# Altium integrated library Linear Technology PMIC-Switching Reg LTC1174-LTC3901.IntLib: 2647 symbols (part 214 of 310)
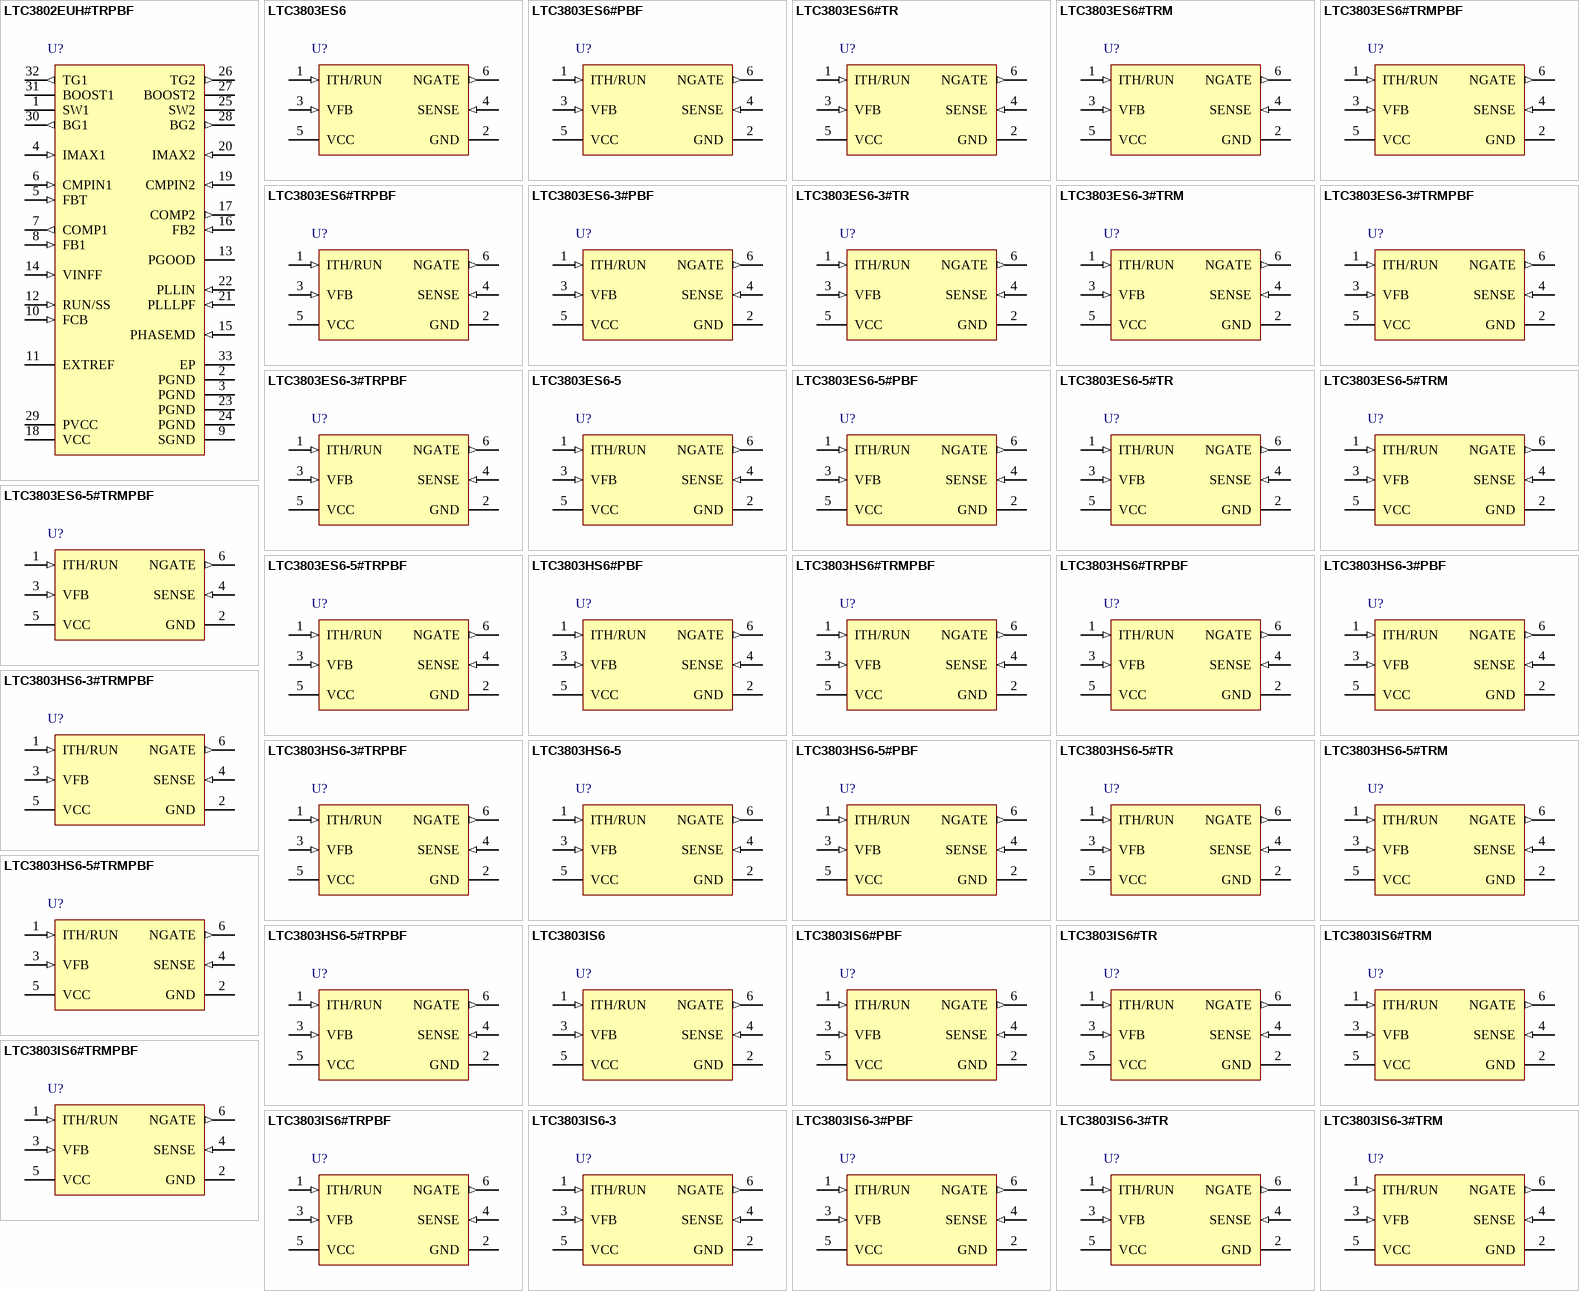
[diagram p241: symbols LTC3802EUH#TRPBF to LTC3803IS6-3#TRM]

## LTC3803ES6#TRMPBF
designator U?
Constant Frequency Current Mode Flyback DC/DC Controller, 6-pin SOT23 (S6-6), -40 to 125 degC, Pb-Free, Mini Tape and Reel; Manufacturer: Linear Technology; PartNumber: LTC3803ES6#TRMPBF; Number of Outputs: 1; PackageReference: S6-6; PackageDescription: 6-Pin Plastic TSOT-23, Body 2.9 x 1.63 mm, Pitch 0.95 mm; Supplier 1: Digi-Key; Supplier Part Number 1: LTC3803ES6#TRMPBFTR-ND; RoHS: TRUE; Code_JEDEC: MO-193
footprint LT-S6-6-TSOT-23_N (SOT23, 6-Leads, Body 2.9x1.75mm, Pitch 0.95mm, IPC Medium Density)
footprint LT-S6-6-TSOT-23_L (SOT23, 6-Leads, Body 2.9x1.75mm, Pitch 0.95mm, IPC High Density)
footprint LT-S6-6-TSOT-23_M (SOT23, 6-Leads, Body 2.9x1.75mm, Pitch 0.95mm, IPC Low Density)
pins: 1 ITH/RUN (in), 2 GND (power) "Ground Pin.", 3 VFB (in) "Receives the feedback voltage from an external resistive divider across the output.", 4 SENSE (in) "This pin performs two functions. It monitors switch current by reading the voltage across an external current sense resistor to ground. It also injects a current ramp that develops slope compensation voltage across an (See Datasheet)", 5 VCC (power) "Supply Pin. Must be closely decoupled to GND (Pin 2).", 6 NGATE (out) "Gate Drive for the External N-channel MOSFET. This pin swings from 0V to VCC."

## LTC3803ES6#TRPBF
designator U?
Constant Frequency Current Mode Flyback DC/DC Controller, 6-pin SOT23 (S6-6), -40 to 125 degC, Pb-Free, Tape and Reel; Manufacturer: Linear Technology; PartNumber: LTC3803ES6#TRPBF; Number of Outputs: 1; PackageReference: S6-6; PackageDescription: 6-Pin Plastic TSOT-23, Body 2.9 x 1.63 mm, Pitch 0.95 mm; Supplier 1: Digi-Key; Supplier Part Number 1: LTC3803ES6#TRPBF-ND; RoHS: TRUE; Code_JEDEC: MO-193
footprint LT-S6-6-TSOT-23_N (SOT23, 6-Leads, Body 2.9x1.75mm, Pitch 0.95mm, IPC Medium Density)
footprint LT-S6-6-TSOT-23_L (SOT23, 6-Leads, Body 2.9x1.75mm, Pitch 0.95mm, IPC High Density)
footprint LT-S6-6-TSOT-23_M (SOT23, 6-Leads, Body 2.9x1.75mm, Pitch 0.95mm, IPC Low Density)
pins: 1 ITH/RUN (in), 2 GND (power) "Ground Pin.", 3 VFB (in) "Receives the feedback voltage from an external resistive divider across the output.", 4 SENSE (in) "This pin performs two functions. It monitors switch current by reading the voltage across an external current sense resistor to ground. It also injects a current ramp that develops slope compensation voltage across an (See Datasheet)", 5 VCC (power) "Supply Pin. Must be closely decoupled to GND (Pin 2).", 6 NGATE (out) "Gate Drive for the External N-channel MOSFET. This pin swings from 0V to VCC."

## LTC3803ES6-3#PBF
designator U?
Constant Frequency Current Mode Flyback DC/DC Controller, 6-pin SOT23 (S6-6), -40 to 125 degC, Pb-Free; Manufacturer: Linear Technology; PartNumber: LTC3803ES6-3#PBF; Number of Outputs: 1; PackageReference: S6-6; PackageDescription: 6-Pin Plastic TSOT-23, Body 2.9 x 1.63 mm, Pitch 0.95 mm; Supplier 1: Farnell; Supplier Part Number 1: 2295146; RoHS: TRUE; Code_JEDEC: MO-193
footprint LT-S6-6-TSOT-23_N (SOT23, 6-Leads, Body 2.9x1.75mm, Pitch 0.95mm, IPC Medium Density)
footprint LT-S6-6-TSOT-23_L (SOT23, 6-Leads, Body 2.9x1.75mm, Pitch 0.95mm, IPC High Density)
footprint LT-S6-6-TSOT-23_M (SOT23, 6-Leads, Body 2.9x1.75mm, Pitch 0.95mm, IPC Low Density)
pins: 1 ITH/RUN (in), 2 GND (power) "Ground Pin.", 3 VFB (in) "Receives the feedback voltage from an external resistive divider across the output.", 4 SENSE (in) "This pin performs two functions. It monitors switch current by reading the voltage across an external current sense resistor to ground. It also injects a current ramp that develops slope compensation voltage across an (See Datasheet)", 5 VCC (power) "Supply Pin. Must be closely decoupled to GND (Pin 2).", 6 NGATE (out) "Gate Drive for the External N-channel MOSFET. This pin swings from 0V to VCC."

## LTC3803ES6-3#TR
designator U?
Constant Frequency Current Mode Flyback DC/DC Controller, 6-pin SOT23 (S6-6), -40 to 125 degC, Tape and Reel; Manufacturer: Linear Technology; PartNumber: LTC3803ES6-3#TR; Number of Outputs: 1; PackageReference: S6-6; PackageDescription: 6-Pin Plastic TSOT-23, Body 2.9 x 1.63 mm, Pitch 0.95 mm; RoHS: FALSE; Code_JEDEC: MO-193
footprint LT-S6-6-TSOT-23_N (SOT23, 6-Leads, Body 2.9x1.75mm, Pitch 0.95mm, IPC Medium Density)
footprint LT-S6-6-TSOT-23_L (SOT23, 6-Leads, Body 2.9x1.75mm, Pitch 0.95mm, IPC High Density)
footprint LT-S6-6-TSOT-23_M (SOT23, 6-Leads, Body 2.9x1.75mm, Pitch 0.95mm, IPC Low Density)
pins: 1 ITH/RUN (in), 2 GND (power) "Ground Pin.", 3 VFB (in) "Receives the feedback voltage from an external resistive divider across the output.", 4 SENSE (in) "This pin performs two functions. It monitors switch current by reading the voltage across an external current sense resistor to ground. It also injects a current ramp that develops slope compensation voltage across an (See Datasheet)", 5 VCC (power) "Supply Pin. Must be closely decoupled to GND (Pin 2).", 6 NGATE (out) "Gate Drive for the External N-channel MOSFET. This pin swings from 0V to VCC."

## LTC3803ES6-3#TRM
designator U?
Constant Frequency Current Mode Flyback DC/DC Controller, 6-pin SOT23 (S6-6), -40 to 125 degC, Mini Tape and Reel; Manufacturer: Linear Technology; PartNumber: LTC3803ES6-3#TRM; Number of Outputs: 1; PackageReference: S6-6; PackageDescription: 6-Pin Plastic TSOT-23, Body 2.9 x 1.63 mm, Pitch 0.95 mm; RoHS: FALSE; Code_JEDEC: MO-193
footprint LT-S6-6-TSOT-23_N (SOT23, 6-Leads, Body 2.9x1.75mm, Pitch 0.95mm, IPC Medium Density)
footprint LT-S6-6-TSOT-23_L (SOT23, 6-Leads, Body 2.9x1.75mm, Pitch 0.95mm, IPC High Density)
footprint LT-S6-6-TSOT-23_M (SOT23, 6-Leads, Body 2.9x1.75mm, Pitch 0.95mm, IPC Low Density)
pins: 1 ITH/RUN (in), 2 GND (power) "Ground Pin.", 3 VFB (in) "Receives the feedback voltage from an external resistive divider across the output.", 4 SENSE (in) "This pin performs two functions. It monitors switch current by reading the voltage across an external current sense resistor to ground. It also injects a current ramp that develops slope compensation voltage across an (See Datasheet)", 5 VCC (power) "Supply Pin. Must be closely decoupled to GND (Pin 2).", 6 NGATE (out) "Gate Drive for the External N-channel MOSFET. This pin swings from 0V to VCC."

## LTC3803ES6-3#TRMPBF
designator U?
Constant Frequency Current Mode Flyback DC/DC Controller, 6-pin SOT23 (S6-6), -40 to 125 degC, Pb-Free, Mini Tape and Reel; Manufacturer: Linear Technology; PartNumber: LTC3803ES6-3#TRMPBF; Number of Outputs: 1; PackageReference: S6-6; PackageDescription: 6-Pin Plastic TSOT-23, Body 2.9 x 1.63 mm, Pitch 0.95 mm; Supplier 1: Digi-Key; Supplier Part Number 1: LTC3803ES6-3#TRMPBFTR-ND; RoHS: TRUE; Code_JEDEC: MO-193
footprint LT-S6-6-TSOT-23_N (SOT23, 6-Leads, Body 2.9x1.75mm, Pitch 0.95mm, IPC Medium Density)
footprint LT-S6-6-TSOT-23_L (SOT23, 6-Leads, Body 2.9x1.75mm, Pitch 0.95mm, IPC High Density)
footprint LT-S6-6-TSOT-23_M (SOT23, 6-Leads, Body 2.9x1.75mm, Pitch 0.95mm, IPC Low Density)
pins: 1 ITH/RUN (in), 2 GND (power) "Ground Pin.", 3 VFB (in) "Receives the feedback voltage from an external resistive divider across the output.", 4 SENSE (in) "This pin performs two functions. It monitors switch current by reading the voltage across an external current sense resistor to ground. It also injects a current ramp that develops slope compensation voltage across an (See Datasheet)", 5 VCC (power) "Supply Pin. Must be closely decoupled to GND (Pin 2).", 6 NGATE (out) "Gate Drive for the External N-channel MOSFET. This pin swings from 0V to VCC."

## LTC3803ES6-3#TRPBF
designator U?
Constant Frequency Current Mode Flyback DC/DC Controller, 6-pin SOT23 (S6-6), -40 to 125 degC, Pb-Free, Tape and Reel; Manufacturer: Linear Technology; PartNumber: LTC3803ES6-3#TRPBF; Number of Outputs: 1; PackageReference: S6-6; PackageDescription: 6-Pin Plastic TSOT-23, Body 2.9 x 1.63 mm, Pitch 0.95 mm; Supplier 1: Digi-Key; Supplier Part Number 1: LTC3803ES6-3#TRPBF-ND; RoHS: TRUE; Code_JEDEC: MO-193
footprint LT-S6-6-TSOT-23_N (SOT23, 6-Leads, Body 2.9x1.75mm, Pitch 0.95mm, IPC Medium Density)
footprint LT-S6-6-TSOT-23_L (SOT23, 6-Leads, Body 2.9x1.75mm, Pitch 0.95mm, IPC High Density)
footprint LT-S6-6-TSOT-23_M (SOT23, 6-Leads, Body 2.9x1.75mm, Pitch 0.95mm, IPC Low Density)
pins: 1 ITH/RUN (in), 2 GND (power) "Ground Pin.", 3 VFB (in) "Receives the feedback voltage from an external resistive divider across the output.", 4 SENSE (in) "This pin performs two functions. It monitors switch current by reading the voltage across an external current sense resistor to ground. It also injects a current ramp that develops slope compensation voltage across an (See Datasheet)", 5 VCC (power) "Supply Pin. Must be closely decoupled to GND (Pin 2).", 6 NGATE (out) "Gate Drive for the External N-channel MOSFET. This pin swings from 0V to VCC."

## LTC3803ES6-5
designator U?
Constant Frequency Current Mode Flyback DC/DC Controller, 6-pin SOT23 (S6-6), -40 to 125 degC; Manufacturer: Linear Technology; PartNumber: LTC3803ES6-5; Number of Outputs: 1; PackageReference: S6-6; PackageDescription: 6-Pin Plastic TSOT-23, Body 2.9 x 1.63 mm, Pitch 0.95 mm; RoHS: FALSE; Code_JEDEC: MO-193
footprint LT-S6-6-TSOT-23_N (SOT23, 6-Leads, Body 2.9x1.75mm, Pitch 0.95mm, IPC Medium Density)
footprint LT-S6-6-TSOT-23_L (SOT23, 6-Leads, Body 2.9x1.75mm, Pitch 0.95mm, IPC High Density)
footprint LT-S6-6-TSOT-23_M (SOT23, 6-Leads, Body 2.9x1.75mm, Pitch 0.95mm, IPC Low Density)
pins: 1 ITH/RUN (in), 2 GND (power) "Ground Pin.", 3 VFB (in) "Receives the feedback voltage from an external resistive divider across the output.", 4 SENSE (in) "This pin performs two functions. It monitors switch current by reading the voltage across an external current sense resistor to ground. It also injects a current ramp that develops slope compensation voltage across an (See Datasheet)", 5 VCC (power) "Supply Pin. Must be closely decoupled to GND (Pin 2).", 6 NGATE (out) "Gate Drive for the External N-channel MOSFET. This pin swings from 0V to VCC."

## LTC3803ES6-5#PBF
designator U?
Constant Frequency Current Mode Flyback DC/DC Controller, 6-pin SOT23 (S6-6), -40 to 125 degC, Pb-Free; Manufacturer: Linear Technology; PartNumber: LTC3803ES6-5#PBF; Number of Outputs: 1; PackageReference: S6-6; PackageDescription: 6-Pin Plastic TSOT-23, Body 2.9 x 1.63 mm, Pitch 0.95 mm; Supplier 1: Newark; Supplier Part Number 1: 78T3246; RoHS: TRUE; Code_JEDEC: MO-193
footprint LT-S6-6-TSOT-23_N (SOT23, 6-Leads, Body 2.9x1.75mm, Pitch 0.95mm, IPC Medium Density)
footprint LT-S6-6-TSOT-23_L (SOT23, 6-Leads, Body 2.9x1.75mm, Pitch 0.95mm, IPC High Density)
footprint LT-S6-6-TSOT-23_M (SOT23, 6-Leads, Body 2.9x1.75mm, Pitch 0.95mm, IPC Low Density)
pins: 1 ITH/RUN (in), 2 GND (power) "Ground Pin.", 3 VFB (in) "Receives the feedback voltage from an external resistive divider across the output.", 4 SENSE (in) "This pin performs two functions. It monitors switch current by reading the voltage across an external current sense resistor to ground. It also injects a current ramp that develops slope compensation voltage across an (See Datasheet)", 5 VCC (power) "Supply Pin. Must be closely decoupled to GND (Pin 2).", 6 NGATE (out) "Gate Drive for the External N-channel MOSFET. This pin swings from 0V to VCC."

## LTC3803ES6-5#TR
designator U?
Constant Frequency Current Mode Flyback DC/DC Controller, 6-pin SOT23 (S6-6), -40 to 125 degC, Tape and Reel; Manufacturer: Linear Technology; PartNumber: LTC3803ES6-5#TR; Number of Outputs: 1; PackageReference: S6-6; PackageDescription: 6-Pin Plastic TSOT-23, Body 2.9 x 1.63 mm, Pitch 0.95 mm; RoHS: FALSE; Code_JEDEC: MO-193
footprint LT-S6-6-TSOT-23_N (SOT23, 6-Leads, Body 2.9x1.75mm, Pitch 0.95mm, IPC Medium Density)
footprint LT-S6-6-TSOT-23_L (SOT23, 6-Leads, Body 2.9x1.75mm, Pitch 0.95mm, IPC High Density)
footprint LT-S6-6-TSOT-23_M (SOT23, 6-Leads, Body 2.9x1.75mm, Pitch 0.95mm, IPC Low Density)
pins: 1 ITH/RUN (in), 2 GND (power) "Ground Pin.", 3 VFB (in) "Receives the feedback voltage from an external resistive divider across the output.", 4 SENSE (in) "This pin performs two functions. It monitors switch current by reading the voltage across an external current sense resistor to ground. It also injects a current ramp that develops slope compensation voltage across an (See Datasheet)", 5 VCC (power) "Supply Pin. Must be closely decoupled to GND (Pin 2).", 6 NGATE (out) "Gate Drive for the External N-channel MOSFET. This pin swings from 0V to VCC."

## LTC3803ES6-5#TRM
designator U?
Constant Frequency Current Mode Flyback DC/DC Controller, 6-pin SOT23 (S6-6), -40 to 125 degC, Mini Tape and Reel; Manufacturer: Linear Technology; PartNumber: LTC3803ES6-5#TRM; Number of Outputs: 1; PackageReference: S6-6; PackageDescription: 6-Pin Plastic TSOT-23, Body 2.9 x 1.63 mm, Pitch 0.95 mm; Supplier 1: Digi-Key; Supplier Part Number 1: LTC3803ES6-5#TRMTR-ND; RoHS: FALSE; Code_JEDEC: MO-193
footprint LT-S6-6-TSOT-23_N (SOT23, 6-Leads, Body 2.9x1.75mm, Pitch 0.95mm, IPC Medium Density)
footprint LT-S6-6-TSOT-23_L (SOT23, 6-Leads, Body 2.9x1.75mm, Pitch 0.95mm, IPC High Density)
footprint LT-S6-6-TSOT-23_M (SOT23, 6-Leads, Body 2.9x1.75mm, Pitch 0.95mm, IPC Low Density)
pins: 1 ITH/RUN (in), 2 GND (power) "Ground Pin.", 3 VFB (in) "Receives the feedback voltage from an external resistive divider across the output.", 4 SENSE (in) "This pin performs two functions. It monitors switch current by reading the voltage across an external current sense resistor to ground. It also injects a current ramp that develops slope compensation voltage across an (See Datasheet)", 5 VCC (power) "Supply Pin. Must be closely decoupled to GND (Pin 2).", 6 NGATE (out) "Gate Drive for the External N-channel MOSFET. This pin swings from 0V to VCC."

## LTC3803ES6-5#TRMPBF
designator U?
Constant Frequency Current Mode Flyback DC/DC Controller, 6-pin SOT23 (S6-6), -40 to 125 degC, Pb-Free, Mini Tape and Reel; Manufacturer: Linear Technology; PartNumber: LTC3803ES6-5#TRMPBF; Number of Outputs: 1; PackageReference: S6-6; PackageDescription: 6-Pin Plastic TSOT-23, Body 2.9 x 1.63 mm, Pitch 0.95 mm; Supplier 1: Digi-Key; Supplier Part Number 1: LTC3803ES6-5#TRMPBF-ND; RoHS: TRUE; Code_JEDEC: MO-193
footprint LT-S6-6-TSOT-23_N (SOT23, 6-Leads, Body 2.9x1.75mm, Pitch 0.95mm, IPC Medium Density)
footprint LT-S6-6-TSOT-23_L (SOT23, 6-Leads, Body 2.9x1.75mm, Pitch 0.95mm, IPC High Density)
footprint LT-S6-6-TSOT-23_M (SOT23, 6-Leads, Body 2.9x1.75mm, Pitch 0.95mm, IPC Low Density)
pins: 1 ITH/RUN (in), 2 GND (power) "Ground Pin.", 3 VFB (in) "Receives the feedback voltage from an external resistive divider across the output.", 4 SENSE (in) "This pin performs two functions. It monitors switch current by reading the voltage across an external current sense resistor to ground. It also injects a current ramp that develops slope compensation voltage across an (See Datasheet)", 5 VCC (power) "Supply Pin. Must be closely decoupled to GND (Pin 2).", 6 NGATE (out) "Gate Drive for the External N-channel MOSFET. This pin swings from 0V to VCC."

## LTC3803ES6-5#TRPBF
designator U?
Constant Frequency Current Mode Flyback DC/DC Controller, 6-pin SOT23 (S6-6), -40 to 125 degC, Pb-Free, Tape and Reel; Manufacturer: Linear Technology; PartNumber: LTC3803ES6-5#TRPBF; Number of Outputs: 1; PackageReference: S6-6; PackageDescription: 6-Pin Plastic TSOT-23, Body 2.9 x 1.63 mm, Pitch 0.95 mm; Supplier 1: Digi-Key; Supplier Part Number 1: LTC3803ES6-5#TRPBF-ND; RoHS: TRUE; Code_JEDEC: MO-193
footprint LT-S6-6-TSOT-23_N (SOT23, 6-Leads, Body 2.9x1.75mm, Pitch 0.95mm, IPC Medium Density)
footprint LT-S6-6-TSOT-23_L (SOT23, 6-Leads, Body 2.9x1.75mm, Pitch 0.95mm, IPC High Density)
footprint LT-S6-6-TSOT-23_M (SOT23, 6-Leads, Body 2.9x1.75mm, Pitch 0.95mm, IPC Low Density)
pins: 1 ITH/RUN (in), 2 GND (power) "Ground Pin.", 3 VFB (in) "Receives the feedback voltage from an external resistive divider across the output.", 4 SENSE (in) "This pin performs two functions. It monitors switch current by reading the voltage across an external current sense resistor to ground. It also injects a current ramp that develops slope compensation voltage across an (See Datasheet)", 5 VCC (power) "Supply Pin. Must be closely decoupled to GND (Pin 2).", 6 NGATE (out) "Gate Drive for the External N-channel MOSFET. This pin swings from 0V to VCC."

## LTC3803HS6#PBF
designator U?
Constant Frequency Current Mode Flyback DC/DC Controller, 6-pin SOT23 (S6-6), -40 to 150 degC, Pb-Free; Manufacturer: Linear Technology; PartNumber: LTC3803HS6#PBF; Number of Outputs: 1; PackageReference: S6-6; PackageDescription: 6-Pin Plastic TSOT-23, Body 2.9 x 1.63 mm, Pitch 0.95 mm; Supplier 1: Newark; Supplier Part Number 1: 51P3118; RoHS: TRUE; Code_JEDEC: MO-193
footprint LT-S6-6-TSOT-23_N (SOT23, 6-Leads, Body 2.9x1.75mm, Pitch 0.95mm, IPC Medium Density)
footprint LT-S6-6-TSOT-23_L (SOT23, 6-Leads, Body 2.9x1.75mm, Pitch 0.95mm, IPC High Density)
footprint LT-S6-6-TSOT-23_M (SOT23, 6-Leads, Body 2.9x1.75mm, Pitch 0.95mm, IPC Low Density)
pins: 1 ITH/RUN (in), 2 GND (power) "Ground Pin.", 3 VFB (in) "Receives the feedback voltage from an external resistive divider across the output.", 4 SENSE (in) "This pin performs two functions. It monitors switch current by reading the voltage across an external current sense resistor to ground. It also injects a current ramp that develops slope compensation voltage across an (See Datasheet)", 5 VCC (power) "Supply Pin. Must be closely decoupled to GND (Pin 2).", 6 NGATE (out) "Gate Drive for the External N-channel MOSFET. This pin swings from 0V to VCC."

## LTC3803HS6#TRMPBF
designator U?
Constant Frequency Current Mode Flyback DC/DC Controller, 6-pin SOT23 (S6-6), -40 to 150 degC, Pb-Free, Mini Tape and Reel; Manufacturer: Linear Technology; PartNumber: LTC3803HS6#TRMPBF; Number of Outputs: 1; PackageReference: S6-6; PackageDescription: 6-Pin Plastic TSOT-23, Body 2.9 x 1.63 mm, Pitch 0.95 mm; Supplier 1: Digi-Key; Supplier Part Number 1: LTC3803HS6#TRMPBFTR-ND; RoHS: TRUE; Code_JEDEC: MO-193
footprint LT-S6-6-TSOT-23_N (SOT23, 6-Leads, Body 2.9x1.75mm, Pitch 0.95mm, IPC Medium Density)
footprint LT-S6-6-TSOT-23_L (SOT23, 6-Leads, Body 2.9x1.75mm, Pitch 0.95mm, IPC High Density)
footprint LT-S6-6-TSOT-23_M (SOT23, 6-Leads, Body 2.9x1.75mm, Pitch 0.95mm, IPC Low Density)
pins: 1 ITH/RUN (in), 2 GND (power) "Ground Pin.", 3 VFB (in) "Receives the feedback voltage from an external resistive divider across the output.", 4 SENSE (in) "This pin performs two functions. It monitors switch current by reading the voltage across an external current sense resistor to ground. It also injects a current ramp that develops slope compensation voltage across an (See Datasheet)", 5 VCC (power) "Supply Pin. Must be closely decoupled to GND (Pin 2).", 6 NGATE (out) "Gate Drive for the External N-channel MOSFET. This pin swings from 0V to VCC."

## LTC3803HS6#TRPBF
designator U?
Constant Frequency Current Mode Flyback DC/DC Controller, 6-pin SOT23 (S6-6), -40 to 150 degC, Pb-Free, Tape and Reel; Manufacturer: Linear Technology; PartNumber: LTC3803HS6#TRPBF; Number of Outputs: 1; PackageReference: S6-6; PackageDescription: 6-Pin Plastic TSOT-23, Body 2.9 x 1.63 mm, Pitch 0.95 mm; Supplier 1: Digi-Key; Supplier Part Number 1: LTC3803HS6#TRPBF-ND; RoHS: TRUE; Code_JEDEC: MO-193
footprint LT-S6-6-TSOT-23_N (SOT23, 6-Leads, Body 2.9x1.75mm, Pitch 0.95mm, IPC Medium Density)
footprint LT-S6-6-TSOT-23_L (SOT23, 6-Leads, Body 2.9x1.75mm, Pitch 0.95mm, IPC High Density)
footprint LT-S6-6-TSOT-23_M (SOT23, 6-Leads, Body 2.9x1.75mm, Pitch 0.95mm, IPC Low Density)
pins: 1 ITH/RUN (in), 2 GND (power) "Ground Pin.", 3 VFB (in) "Receives the feedback voltage from an external resistive divider across the output.", 4 SENSE (in) "This pin performs two functions. It monitors switch current by reading the voltage across an external current sense resistor to ground. It also injects a current ramp that develops slope compensation voltage across an (See Datasheet)", 5 VCC (power) "Supply Pin. Must be closely decoupled to GND (Pin 2).", 6 NGATE (out) "Gate Drive for the External N-channel MOSFET. This pin swings from 0V to VCC."

## LTC3803HS6-3#PBF
designator U?
Constant Frequency Current Mode Flyback DC/DC Controller, 6-pin SOT23 (S6-6), -40 to 150 degC, Pb-Free; Manufacturer: Linear Technology; PartNumber: LTC3803HS6-3#PBF; Number of Outputs: 1; PackageReference: S6-6; PackageDescription: 6-Pin Plastic TSOT-23, Body 2.9 x 1.63 mm, Pitch 0.95 mm; RoHS: TRUE; Code_JEDEC: MO-193
footprint LT-S6-6-TSOT-23_N (SOT23, 6-Leads, Body 2.9x1.75mm, Pitch 0.95mm, IPC Medium Density)
footprint LT-S6-6-TSOT-23_L (SOT23, 6-Leads, Body 2.9x1.75mm, Pitch 0.95mm, IPC High Density)
footprint LT-S6-6-TSOT-23_M (SOT23, 6-Leads, Body 2.9x1.75mm, Pitch 0.95mm, IPC Low Density)
pins: 1 ITH/RUN (in), 2 GND (power) "Ground Pin.", 3 VFB (in) "Receives the feedback voltage from an external resistive divider across the output.", 4 SENSE (in) "This pin performs two functions. It monitors switch current by reading the voltage across an external current sense resistor to ground. It also injects a current ramp that develops slope compensation voltage across an (See Datasheet)", 5 VCC (power) "Supply Pin. Must be closely decoupled to GND (Pin 2).", 6 NGATE (out) "Gate Drive for the External N-channel MOSFET. This pin swings from 0V to VCC."

## LTC3803HS6-3#TRMPBF
designator U?
Constant Frequency Current Mode Flyback DC/DC Controller, 6-pin SOT23 (S6-6), -40 to 150 degC, Pb-Free, Mini Tape and Reel; Manufacturer: Linear Technology; PartNumber: LTC3803HS6-3#TRMPBF; Number of Outputs: 1; PackageReference: S6-6; PackageDescription: 6-Pin Plastic TSOT-23, Body 2.9 x 1.63 mm, Pitch 0.95 mm; Supplier 1: Digi-Key; Supplier Part Number 1: LTC3803HS6-3#TRMPBF-ND; RoHS: TRUE; Code_JEDEC: MO-193
footprint LT-S6-6-TSOT-23_N (SOT23, 6-Leads, Body 2.9x1.75mm, Pitch 0.95mm, IPC Medium Density)
footprint LT-S6-6-TSOT-23_L (SOT23, 6-Leads, Body 2.9x1.75mm, Pitch 0.95mm, IPC High Density)
footprint LT-S6-6-TSOT-23_M (SOT23, 6-Leads, Body 2.9x1.75mm, Pitch 0.95mm, IPC Low Density)
pins: 1 ITH/RUN (in), 2 GND (power) "Ground Pin.", 3 VFB (in) "Receives the feedback voltage from an external resistive divider across the output.", 4 SENSE (in) "This pin performs two functions. It monitors switch current by reading the voltage across an external current sense resistor to ground. It also injects a current ramp that develops slope compensation voltage across an (See Datasheet)", 5 VCC (power) "Supply Pin. Must be closely decoupled to GND (Pin 2).", 6 NGATE (out) "Gate Drive for the External N-channel MOSFET. This pin swings from 0V to VCC."

## LTC3803HS6-3#TRPBF
designator U?
Constant Frequency Current Mode Flyback DC/DC Controller, 6-pin SOT23 (S6-6), -40 to 150 degC, Pb-Free, Tape and Reel; Manufacturer: Linear Technology; PartNumber: LTC3803HS6-3#TRPBF; Number of Outputs: 1; PackageReference: S6-6; PackageDescription: 6-Pin Plastic TSOT-23, Body 2.9 x 1.63 mm, Pitch 0.95 mm; Supplier 1: Digi-Key; Supplier Part Number 1: LTC3803HS6-3#TRPBF-ND; RoHS: TRUE; Code_JEDEC: MO-193
footprint LT-S6-6-TSOT-23_N (SOT23, 6-Leads, Body 2.9x1.75mm, Pitch 0.95mm, IPC Medium Density)
footprint LT-S6-6-TSOT-23_L (SOT23, 6-Leads, Body 2.9x1.75mm, Pitch 0.95mm, IPC High Density)
footprint LT-S6-6-TSOT-23_M (SOT23, 6-Leads, Body 2.9x1.75mm, Pitch 0.95mm, IPC Low Density)
pins: 1 ITH/RUN (in), 2 GND (power) "Ground Pin.", 3 VFB (in) "Receives the feedback voltage from an external resistive divider across the output.", 4 SENSE (in) "This pin performs two functions. It monitors switch current by reading the voltage across an external current sense resistor to ground. It also injects a current ramp that develops slope compensation voltage across an (See Datasheet)", 5 VCC (power) "Supply Pin. Must be closely decoupled to GND (Pin 2).", 6 NGATE (out) "Gate Drive for the External N-channel MOSFET. This pin swings from 0V to VCC."

## LTC3803HS6-5
designator U?
Constant Frequency Current Mode Flyback DC/DC Controller, 6-pin SOT23 (S6-6), -40 to 150 degC; Manufacturer: Linear Technology; PartNumber: LTC3803HS6-5; Number of Outputs: 1; PackageReference: S6-6; PackageDescription: 6-Pin Plastic TSOT-23, Body 2.9 x 1.63 mm, Pitch 0.95 mm; RoHS: FALSE; Code_JEDEC: MO-193
footprint LT-S6-6-TSOT-23_N (SOT23, 6-Leads, Body 2.9x1.75mm, Pitch 0.95mm, IPC Medium Density)
footprint LT-S6-6-TSOT-23_L (SOT23, 6-Leads, Body 2.9x1.75mm, Pitch 0.95mm, IPC High Density)
footprint LT-S6-6-TSOT-23_M (SOT23, 6-Leads, Body 2.9x1.75mm, Pitch 0.95mm, IPC Low Density)
pins: 1 ITH/RUN (in), 2 GND (power) "Ground Pin.", 3 VFB (in) "Receives the feedback voltage from an external resistive divider across the output.", 4 SENSE (in) "This pin performs two functions. It monitors switch current by reading the voltage across an external current sense resistor to ground. It also injects a current ramp that develops slope compensation voltage across an (See Datasheet)", 5 VCC (power) "Supply Pin. Must be closely decoupled to GND (Pin 2).", 6 NGATE (out) "Gate Drive for the External N-channel MOSFET. This pin swings from 0V to VCC."

## LTC3803HS6-5#PBF
designator U?
Constant Frequency Current Mode Flyback DC/DC Controller, 6-pin SOT23 (S6-6), -40 to 150 degC, Pb-Free; Manufacturer: Linear Technology; PartNumber: LTC3803HS6-5#PBF; Number of Outputs: 1; PackageReference: S6-6; PackageDescription: 6-Pin Plastic TSOT-23, Body 2.9 x 1.63 mm, Pitch 0.95 mm; Supplier 1: Newark; Supplier Part Number 1: 78T3248; RoHS: TRUE; Code_JEDEC: MO-193
footprint LT-S6-6-TSOT-23_N (SOT23, 6-Leads, Body 2.9x1.75mm, Pitch 0.95mm, IPC Medium Density)
footprint LT-S6-6-TSOT-23_L (SOT23, 6-Leads, Body 2.9x1.75mm, Pitch 0.95mm, IPC High Density)
footprint LT-S6-6-TSOT-23_M (SOT23, 6-Leads, Body 2.9x1.75mm, Pitch 0.95mm, IPC Low Density)
pins: 1 ITH/RUN (in), 2 GND (power) "Ground Pin.", 3 VFB (in) "Receives the feedback voltage from an external resistive divider across the output.", 4 SENSE (in) "This pin performs two functions. It monitors switch current by reading the voltage across an external current sense resistor to ground. It also injects a current ramp that develops slope compensation voltage across an (See Datasheet)", 5 VCC (power) "Supply Pin. Must be closely decoupled to GND (Pin 2).", 6 NGATE (out) "Gate Drive for the External N-channel MOSFET. This pin swings from 0V to VCC."

## LTC3803HS6-5#TR
designator U?
Constant Frequency Current Mode Flyback DC/DC Controller, 6-pin SOT23 (S6-6), -40 to 150 degC, Tape and Reel; Manufacturer: Linear Technology; PartNumber: LTC3803HS6-5#TR; Number of Outputs: 1; PackageReference: S6-6; PackageDescription: 6-Pin Plastic TSOT-23, Body 2.9 x 1.63 mm, Pitch 0.95 mm; RoHS: FALSE; Code_JEDEC: MO-193
footprint LT-S6-6-TSOT-23_N (SOT23, 6-Leads, Body 2.9x1.75mm, Pitch 0.95mm, IPC Medium Density)
footprint LT-S6-6-TSOT-23_L (SOT23, 6-Leads, Body 2.9x1.75mm, Pitch 0.95mm, IPC High Density)
footprint LT-S6-6-TSOT-23_M (SOT23, 6-Leads, Body 2.9x1.75mm, Pitch 0.95mm, IPC Low Density)
pins: 1 ITH/RUN (in), 2 GND (power) "Ground Pin.", 3 VFB (in) "Receives the feedback voltage from an external resistive divider across the output.", 4 SENSE (in) "This pin performs two functions. It monitors switch current by reading the voltage across an external current sense resistor to ground. It also injects a current ramp that develops slope compensation voltage across an (See Datasheet)", 5 VCC (power) "Supply Pin. Must be closely decoupled to GND (Pin 2).", 6 NGATE (out) "Gate Drive for the External N-channel MOSFET. This pin swings from 0V to VCC."

## LTC3803HS6-5#TRM
designator U?
Constant Frequency Current Mode Flyback DC/DC Controller, 6-pin SOT23 (S6-6), -40 to 150 degC, Mini Tape and Reel; Manufacturer: Linear Technology; PartNumber: LTC3803HS6-5#TRM; Number of Outputs: 1; PackageReference: S6-6; PackageDescription: 6-Pin Plastic TSOT-23, Body 2.9 x 1.63 mm, Pitch 0.95 mm; RoHS: FALSE; Code_JEDEC: MO-193
footprint LT-S6-6-TSOT-23_N (SOT23, 6-Leads, Body 2.9x1.75mm, Pitch 0.95mm, IPC Medium Density)
footprint LT-S6-6-TSOT-23_L (SOT23, 6-Leads, Body 2.9x1.75mm, Pitch 0.95mm, IPC High Density)
footprint LT-S6-6-TSOT-23_M (SOT23, 6-Leads, Body 2.9x1.75mm, Pitch 0.95mm, IPC Low Density)
pins: 1 ITH/RUN (in), 2 GND (power) "Ground Pin.", 3 VFB (in) "Receives the feedback voltage from an external resistive divider across the output.", 4 SENSE (in) "This pin performs two functions. It monitors switch current by reading the voltage across an external current sense resistor to ground. It also injects a current ramp that develops slope compensation voltage across an (See Datasheet)", 5 VCC (power) "Supply Pin. Must be closely decoupled to GND (Pin 2).", 6 NGATE (out) "Gate Drive for the External N-channel MOSFET. This pin swings from 0V to VCC."

## LTC3803HS6-5#TRMPBF
designator U?
Constant Frequency Current Mode Flyback DC/DC Controller, 6-pin SOT23 (S6-6), -40 to 150 degC, Pb-Free, Mini Tape and Reel; Manufacturer: Linear Technology; PartNumber: LTC3803HS6-5#TRMPBF; Number of Outputs: 1; PackageReference: S6-6; PackageDescription: 6-Pin Plastic TSOT-23, Body 2.9 x 1.63 mm, Pitch 0.95 mm; Supplier 1: Digi-Key; Supplier Part Number 1: LTC3803HS6-5#TRMPBFTR-ND; RoHS: TRUE; Code_JEDEC: MO-193
footprint LT-S6-6-TSOT-23_N (SOT23, 6-Leads, Body 2.9x1.75mm, Pitch 0.95mm, IPC Medium Density)
footprint LT-S6-6-TSOT-23_L (SOT23, 6-Leads, Body 2.9x1.75mm, Pitch 0.95mm, IPC High Density)
footprint LT-S6-6-TSOT-23_M (SOT23, 6-Leads, Body 2.9x1.75mm, Pitch 0.95mm, IPC Low Density)
pins: 1 ITH/RUN (in), 2 GND (power) "Ground Pin.", 3 VFB (in) "Receives the feedback voltage from an external resistive divider across the output.", 4 SENSE (in) "This pin performs two functions. It monitors switch current by reading the voltage across an external current sense resistor to ground. It also injects a current ramp that develops slope compensation voltage across an (See Datasheet)", 5 VCC (power) "Supply Pin. Must be closely decoupled to GND (Pin 2).", 6 NGATE (out) "Gate Drive for the External N-channel MOSFET. This pin swings from 0V to VCC."

## LTC3803HS6-5#TRPBF
designator U?
Constant Frequency Current Mode Flyback DC/DC Controller, 6-pin SOT23 (S6-6), -40 to 150 degC, Pb-Free, Tape and Reel; Manufacturer: Linear Technology; PartNumber: LTC3803HS6-5#TRPBF; Number of Outputs: 1; PackageReference: S6-6; PackageDescription: 6-Pin Plastic TSOT-23, Body 2.9 x 1.63 mm, Pitch 0.95 mm; Supplier 1: Digi-Key; Supplier Part Number 1: LTC3803HS6-5#TRPBF-ND; RoHS: TRUE; Code_JEDEC: MO-193
footprint LT-S6-6-TSOT-23_N (SOT23, 6-Leads, Body 2.9x1.75mm, Pitch 0.95mm, IPC Medium Density)
footprint LT-S6-6-TSOT-23_L (SOT23, 6-Leads, Body 2.9x1.75mm, Pitch 0.95mm, IPC High Density)
footprint LT-S6-6-TSOT-23_M (SOT23, 6-Leads, Body 2.9x1.75mm, Pitch 0.95mm, IPC Low Density)
pins: 1 ITH/RUN (in), 2 GND (power) "Ground Pin.", 3 VFB (in) "Receives the feedback voltage from an external resistive divider across the output.", 4 SENSE (in) "This pin performs two functions. It monitors switch current by reading the voltage across an external current sense resistor to ground. It also injects a current ramp that develops slope compensation voltage across an (See Datasheet)", 5 VCC (power) "Supply Pin. Must be closely decoupled to GND (Pin 2).", 6 NGATE (out) "Gate Drive for the External N-channel MOSFET. This pin swings from 0V to VCC."

## LTC3803IS6
designator U?
Constant Frequency Current Mode Flyback DC/DC Controller, 6-pin SOT23 (S6-6), -40 to 125 degC; Manufacturer: Linear Technology; PartNumber: LTC3803IS6; Number of Outputs: 1; PackageReference: S6-6; PackageDescription: 6-Pin Plastic TSOT-23, Body 2.9 x 1.63 mm, Pitch 0.95 mm; RoHS: FALSE; Code_JEDEC: MO-193
footprint LT-S6-6-TSOT-23_N (SOT23, 6-Leads, Body 2.9x1.75mm, Pitch 0.95mm, IPC Medium Density)
footprint LT-S6-6-TSOT-23_L (SOT23, 6-Leads, Body 2.9x1.75mm, Pitch 0.95mm, IPC High Density)
footprint LT-S6-6-TSOT-23_M (SOT23, 6-Leads, Body 2.9x1.75mm, Pitch 0.95mm, IPC Low Density)
pins: 1 ITH/RUN (in), 2 GND (power) "Ground Pin.", 3 VFB (in) "Receives the feedback voltage from an external resistive divider across the output.", 4 SENSE (in) "This pin performs two functions. It monitors switch current by reading the voltage across an external current sense resistor to ground. It also injects a current ramp that develops slope compensation voltage across an (See Datasheet)", 5 VCC (power) "Supply Pin. Must be closely decoupled to GND (Pin 2).", 6 NGATE (out) "Gate Drive for the External N-channel MOSFET. This pin swings from 0V to VCC."

## LTC3803IS6#PBF
designator U?
Constant Frequency Current Mode Flyback DC/DC Controller, 6-pin SOT23 (S6-6), -40 to 125 degC, Pb-Free; Manufacturer: Linear Technology; PartNumber: LTC3803IS6#PBF; Number of Outputs: 1; PackageReference: S6-6; PackageDescription: 6-Pin Plastic TSOT-23, Body 2.9 x 1.63 mm, Pitch 0.95 mm; Supplier 1: Newark; Supplier Part Number 1: 79R3082; RoHS: TRUE; Code_JEDEC: MO-193
footprint LT-S6-6-TSOT-23_N (SOT23, 6-Leads, Body 2.9x1.75mm, Pitch 0.95mm, IPC Medium Density)
footprint LT-S6-6-TSOT-23_L (SOT23, 6-Leads, Body 2.9x1.75mm, Pitch 0.95mm, IPC High Density)
footprint LT-S6-6-TSOT-23_M (SOT23, 6-Leads, Body 2.9x1.75mm, Pitch 0.95mm, IPC Low Density)
pins: 1 ITH/RUN (in), 2 GND (power) "Ground Pin.", 3 VFB (in) "Receives the feedback voltage from an external resistive divider across the output.", 4 SENSE (in) "This pin performs two functions. It monitors switch current by reading the voltage across an external current sense resistor to ground. It also injects a current ramp that develops slope compensation voltage across an (See Datasheet)", 5 VCC (power) "Supply Pin. Must be closely decoupled to GND (Pin 2).", 6 NGATE (out) "Gate Drive for the External N-channel MOSFET. This pin swings from 0V to VCC."

## LTC3803IS6#TR
designator U?
Constant Frequency Current Mode Flyback DC/DC Controller, 6-pin SOT23 (S6-6), -40 to 125 degC, Tape and Reel; Manufacturer: Linear Technology; PartNumber: LTC3803IS6#TR; Number of Outputs: 1; PackageReference: S6-6; PackageDescription: 6-Pin Plastic TSOT-23, Body 2.9 x 1.63 mm, Pitch 0.95 mm; Supplier 1: Newark; Supplier Part Number 1: 56M8456; RoHS: FALSE; Code_JEDEC: MO-193
footprint LT-S6-6-TSOT-23_N (SOT23, 6-Leads, Body 2.9x1.75mm, Pitch 0.95mm, IPC Medium Density)
footprint LT-S6-6-TSOT-23_L (SOT23, 6-Leads, Body 2.9x1.75mm, Pitch 0.95mm, IPC High Density)
footprint LT-S6-6-TSOT-23_M (SOT23, 6-Leads, Body 2.9x1.75mm, Pitch 0.95mm, IPC Low Density)
pins: 1 ITH/RUN (in), 2 GND (power) "Ground Pin.", 3 VFB (in) "Receives the feedback voltage from an external resistive divider across the output.", 4 SENSE (in) "This pin performs two functions. It monitors switch current by reading the voltage across an external current sense resistor to ground. It also injects a current ramp that develops slope compensation voltage across an (See Datasheet)", 5 VCC (power) "Supply Pin. Must be closely decoupled to GND (Pin 2).", 6 NGATE (out) "Gate Drive for the External N-channel MOSFET. This pin swings from 0V to VCC."

## LTC3803IS6#TRM
designator U?
Constant Frequency Current Mode Flyback DC/DC Controller, 6-pin SOT23 (S6-6), -40 to 125 degC, Mini Tape and Reel; Manufacturer: Linear Technology; PartNumber: LTC3803IS6#TRM; Number of Outputs: 1; PackageReference: S6-6; PackageDescription: 6-Pin Plastic TSOT-23, Body 2.9 x 1.63 mm, Pitch 0.95 mm; Supplier 1: Newark; Supplier Part Number 1: 56M8457; RoHS: FALSE; Code_JEDEC: MO-193
footprint LT-S6-6-TSOT-23_N (SOT23, 6-Leads, Body 2.9x1.75mm, Pitch 0.95mm, IPC Medium Density)
footprint LT-S6-6-TSOT-23_L (SOT23, 6-Leads, Body 2.9x1.75mm, Pitch 0.95mm, IPC High Density)
footprint LT-S6-6-TSOT-23_M (SOT23, 6-Leads, Body 2.9x1.75mm, Pitch 0.95mm, IPC Low Density)
pins: 1 ITH/RUN (in), 2 GND (power) "Ground Pin.", 3 VFB (in) "Receives the feedback voltage from an external resistive divider across the output.", 4 SENSE (in) "This pin performs two functions. It monitors switch current by reading the voltage across an external current sense resistor to ground. It also injects a current ramp that develops slope compensation voltage across an (See Datasheet)", 5 VCC (power) "Supply Pin. Must be closely decoupled to GND (Pin 2).", 6 NGATE (out) "Gate Drive for the External N-channel MOSFET. This pin swings from 0V to VCC."

## LTC3803IS6#TRMPBF
designator U?
Constant Frequency Current Mode Flyback DC/DC Controller, 6-pin SOT23 (S6-6), -40 to 125 degC, Pb-Free, Mini Tape and Reel; Manufacturer: Linear Technology; PartNumber: LTC3803IS6#TRMPBF; Number of Outputs: 1; PackageReference: S6-6; PackageDescription: 6-Pin Plastic TSOT-23, Body 2.9 x 1.63 mm, Pitch 0.95 mm; Supplier 1: Digi-Key; Supplier Part Number 1: LTC3803IS6#TRMPBFTR-ND; RoHS: TRUE; Code_JEDEC: MO-193
footprint LT-S6-6-TSOT-23_N (SOT23, 6-Leads, Body 2.9x1.75mm, Pitch 0.95mm, IPC Medium Density)
footprint LT-S6-6-TSOT-23_L (SOT23, 6-Leads, Body 2.9x1.75mm, Pitch 0.95mm, IPC High Density)
footprint LT-S6-6-TSOT-23_M (SOT23, 6-Leads, Body 2.9x1.75mm, Pitch 0.95mm, IPC Low Density)
pins: 1 ITH/RUN (in), 2 GND (power) "Ground Pin.", 3 VFB (in) "Receives the feedback voltage from an external resistive divider across the output.", 4 SENSE (in) "This pin performs two functions. It monitors switch current by reading the voltage across an external current sense resistor to ground. It also injects a current ramp that develops slope compensation voltage across an (See Datasheet)", 5 VCC (power) "Supply Pin. Must be closely decoupled to GND (Pin 2).", 6 NGATE (out) "Gate Drive for the External N-channel MOSFET. This pin swings from 0V to VCC."

## LTC3803IS6#TRPBF
designator U?
Constant Frequency Current Mode Flyback DC/DC Controller, 6-pin SOT23 (S6-6), -40 to 125 degC, Pb-Free, Tape and Reel; Manufacturer: Linear Technology; PartNumber: LTC3803IS6#TRPBF; Number of Outputs: 1; PackageReference: S6-6; PackageDescription: 6-Pin Plastic TSOT-23, Body 2.9 x 1.63 mm, Pitch 0.95 mm; Supplier 1: Digi-Key; Supplier Part Number 1: LTC3803IS6#TRPBF-ND; RoHS: TRUE; Code_JEDEC: MO-193
footprint LT-S6-6-TSOT-23_N (SOT23, 6-Leads, Body 2.9x1.75mm, Pitch 0.95mm, IPC Medium Density)
footprint LT-S6-6-TSOT-23_L (SOT23, 6-Leads, Body 2.9x1.75mm, Pitch 0.95mm, IPC High Density)
footprint LT-S6-6-TSOT-23_M (SOT23, 6-Leads, Body 2.9x1.75mm, Pitch 0.95mm, IPC Low Density)
pins: 1 ITH/RUN (in), 2 GND (power) "Ground Pin.", 3 VFB (in) "Receives the feedback voltage from an external resistive divider across the output.", 4 SENSE (in) "This pin performs two functions. It monitors switch current by reading the voltage across an external current sense resistor to ground. It also injects a current ramp that develops slope compensation voltage across an (See Datasheet)", 5 VCC (power) "Supply Pin. Must be closely decoupled to GND (Pin 2).", 6 NGATE (out) "Gate Drive for the External N-channel MOSFET. This pin swings from 0V to VCC."

## LTC3803IS6-3
designator U?
Constant Frequency Current Mode Flyback DC/DC Controller, 6-pin SOT23 (S6-6), -40 to 125 degC; Manufacturer: Linear Technology; PartNumber: LTC3803IS6-3; Number of Outputs: 1; PackageReference: S6-6; PackageDescription: 6-Pin Plastic TSOT-23, Body 2.9 x 1.63 mm, Pitch 0.95 mm; RoHS: FALSE; Code_JEDEC: MO-193
footprint LT-S6-6-TSOT-23_N (SOT23, 6-Leads, Body 2.9x1.75mm, Pitch 0.95mm, IPC Medium Density)
footprint LT-S6-6-TSOT-23_L (SOT23, 6-Leads, Body 2.9x1.75mm, Pitch 0.95mm, IPC High Density)
footprint LT-S6-6-TSOT-23_M (SOT23, 6-Leads, Body 2.9x1.75mm, Pitch 0.95mm, IPC Low Density)
pins: 1 ITH/RUN (in), 2 GND (power) "Ground Pin.", 3 VFB (in) "Receives the feedback voltage from an external resistive divider across the output.", 4 SENSE (in) "This pin performs two functions. It monitors switch current by reading the voltage across an external current sense resistor to ground. It also injects a current ramp that develops slope compensation voltage across an (See Datasheet)", 5 VCC (power) "Supply Pin. Must be closely decoupled to GND (Pin 2).", 6 NGATE (out) "Gate Drive for the External N-channel MOSFET. This pin swings from 0V to VCC."

## LTC3803IS6-3#PBF
designator U?
Constant Frequency Current Mode Flyback DC/DC Controller, 6-pin SOT23 (S6-6), -40 to 125 degC, Pb-Free; Manufacturer: Linear Technology; PartNumber: LTC3803IS6-3#PBF; Number of Outputs: 1; PackageReference: S6-6; PackageDescription: 6-Pin Plastic TSOT-23, Body 2.9 x 1.63 mm, Pitch 0.95 mm; RoHS: TRUE; Code_JEDEC: MO-193
footprint LT-S6-6-TSOT-23_N (SOT23, 6-Leads, Body 2.9x1.75mm, Pitch 0.95mm, IPC Medium Density)
footprint LT-S6-6-TSOT-23_L (SOT23, 6-Leads, Body 2.9x1.75mm, Pitch 0.95mm, IPC High Density)
footprint LT-S6-6-TSOT-23_M (SOT23, 6-Leads, Body 2.9x1.75mm, Pitch 0.95mm, IPC Low Density)
pins: 1 ITH/RUN (in), 2 GND (power) "Ground Pin.", 3 VFB (in) "Receives the feedback voltage from an external resistive divider across the output.", 4 SENSE (in) "This pin performs two functions. It monitors switch current by reading the voltage across an external current sense resistor to ground. It also injects a current ramp that develops slope compensation voltage across an (See Datasheet)", 5 VCC (power) "Supply Pin. Must be closely decoupled to GND (Pin 2).", 6 NGATE (out) "Gate Drive for the External N-channel MOSFET. This pin swings from 0V to VCC."

## LTC3803IS6-3#TR
designator U?
Constant Frequency Current Mode Flyback DC/DC Controller, 6-pin SOT23 (S6-6), -40 to 125 degC, Tape and Reel; Manufacturer: Linear Technology; PartNumber: LTC3803IS6-3#TR; Number of Outputs: 1; PackageReference: S6-6; PackageDescription: 6-Pin Plastic TSOT-23, Body 2.9 x 1.63 mm, Pitch 0.95 mm; RoHS: FALSE; Code_JEDEC: MO-193
footprint LT-S6-6-TSOT-23_N (SOT23, 6-Leads, Body 2.9x1.75mm, Pitch 0.95mm, IPC Medium Density)
footprint LT-S6-6-TSOT-23_L (SOT23, 6-Leads, Body 2.9x1.75mm, Pitch 0.95mm, IPC High Density)
footprint LT-S6-6-TSOT-23_M (SOT23, 6-Leads, Body 2.9x1.75mm, Pitch 0.95mm, IPC Low Density)
pins: 1 ITH/RUN (in), 2 GND (power) "Ground Pin.", 3 VFB (in) "Receives the feedback voltage from an external resistive divider across the output.", 4 SENSE (in) "This pin performs two functions. It monitors switch current by reading the voltage across an external current sense resistor to ground. It also injects a current ramp that develops slope compensation voltage across an (See Datasheet)", 5 VCC (power) "Supply Pin. Must be closely decoupled to GND (Pin 2).", 6 NGATE (out) "Gate Drive for the External N-channel MOSFET. This pin swings from 0V to VCC."

## LTC3803IS6-3#TRM
designator U?
Constant Frequency Current Mode Flyback DC/DC Controller, 6-pin SOT23 (S6-6), -40 to 125 degC, Mini Tape and Reel; Manufacturer: Linear Technology; PartNumber: LTC3803IS6-3#TRM; Number of Outputs: 1; PackageReference: S6-6; PackageDescription: 6-Pin Plastic TSOT-23, Body 2.9 x 1.63 mm, Pitch 0.95 mm; RoHS: FALSE; Code_JEDEC: MO-193
footprint LT-S6-6-TSOT-23_N (SOT23, 6-Leads, Body 2.9x1.75mm, Pitch 0.95mm, IPC Medium Density)
footprint LT-S6-6-TSOT-23_L (SOT23, 6-Leads, Body 2.9x1.75mm, Pitch 0.95mm, IPC High Density)
footprint LT-S6-6-TSOT-23_M (SOT23, 6-Leads, Body 2.9x1.75mm, Pitch 0.95mm, IPC Low Density)
pins: 1 ITH/RUN (in), 2 GND (power) "Ground Pin.", 3 VFB (in) "Receives the feedback voltage from an external resistive divider across the output.", 4 SENSE (in) "This pin performs two functions. It monitors switch current by reading the voltage across an external current sense resistor to ground. It also injects a current ramp that develops slope compensation voltage across an (See Datasheet)", 5 VCC (power) "Supply Pin. Must be closely decoupled to GND (Pin 2).", 6 NGATE (out) "Gate Drive for the External N-channel MOSFET. This pin swings from 0V to VCC."

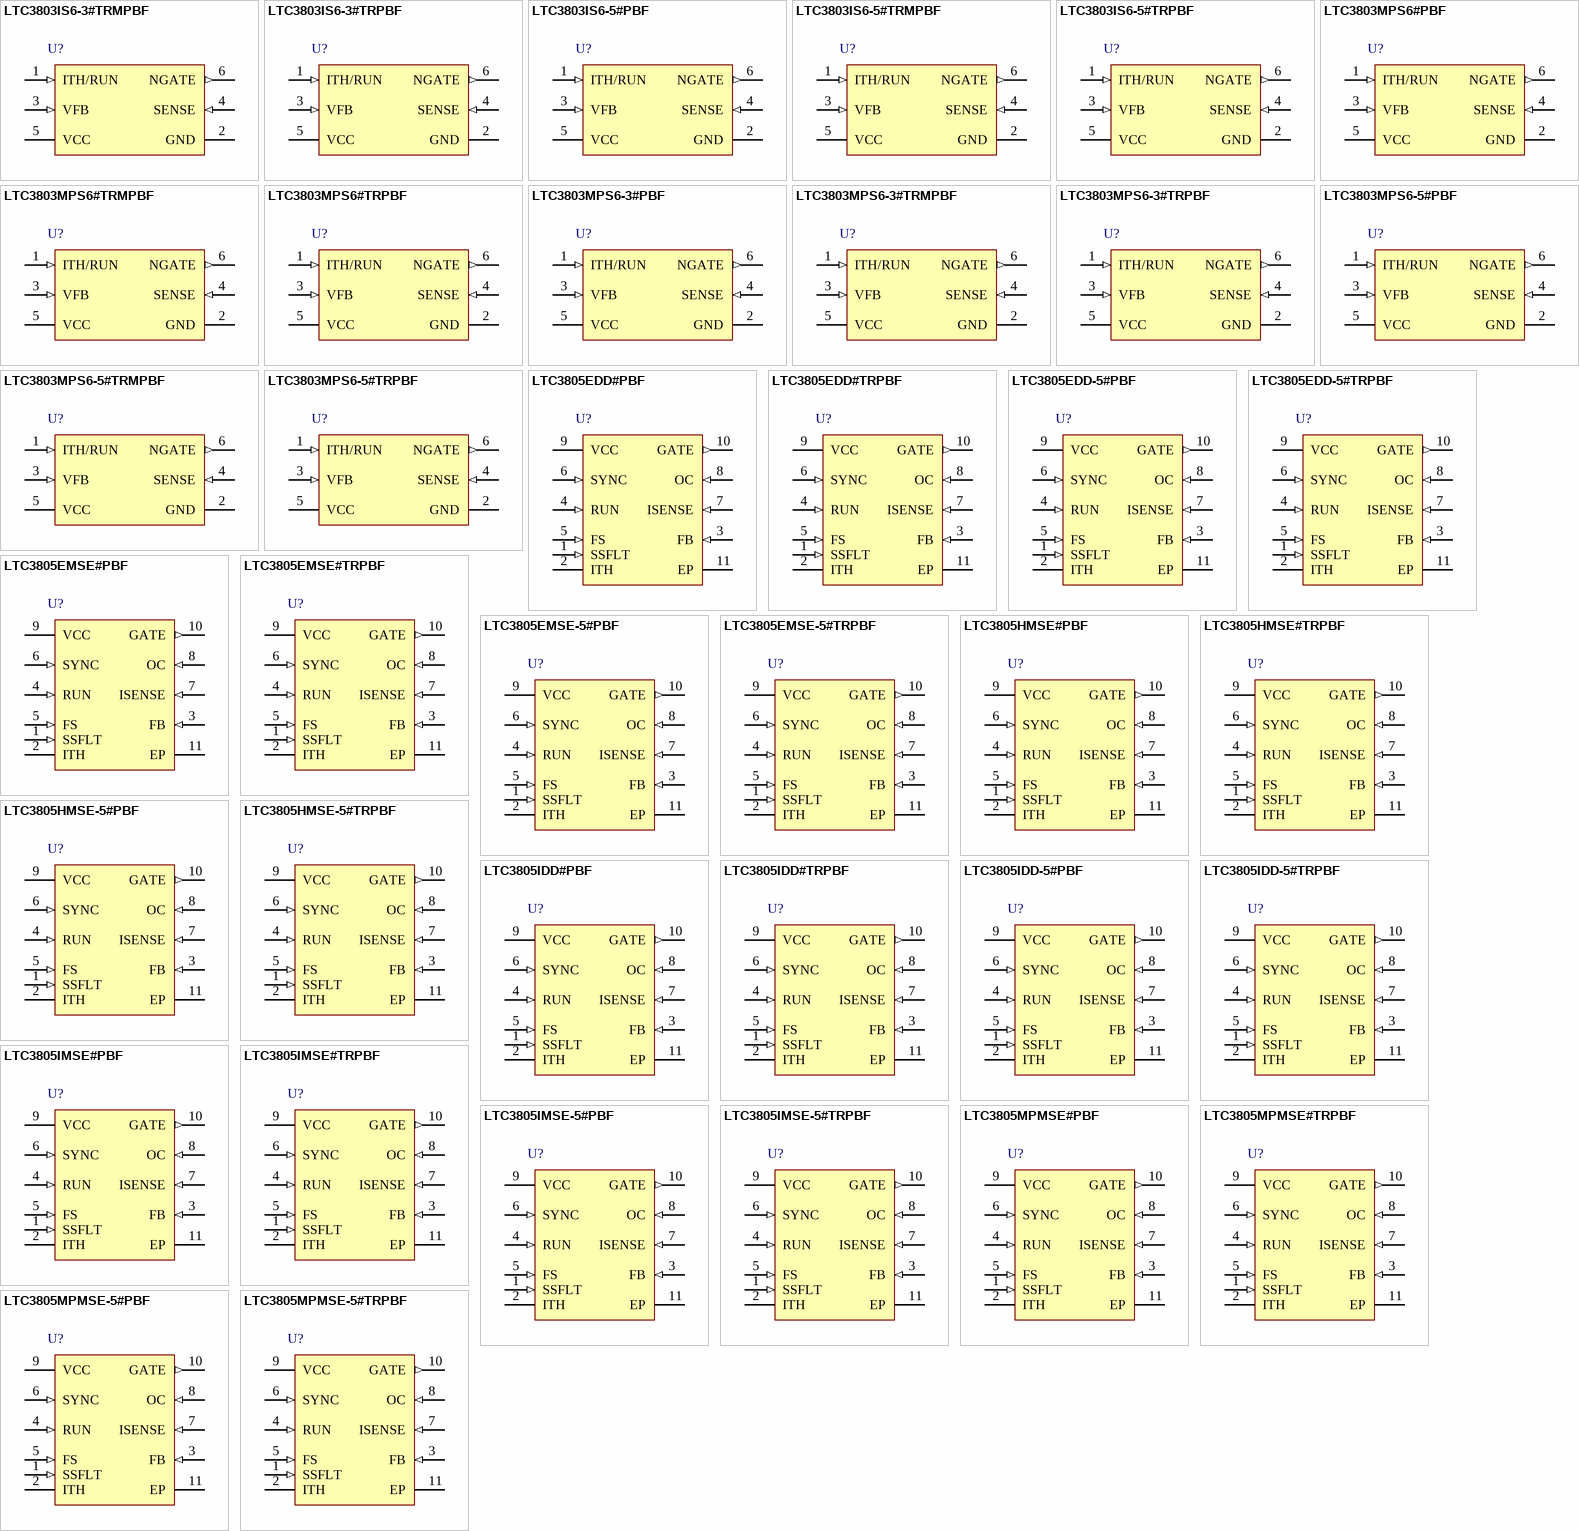
[diagram p76: symbols LTC3803IS6-3#TRMPBF to LTC3805MPMSE-5#TRPBF]

## LTC3803IS6-3#TRMPBF
designator U?
Constant Frequency Current Mode Flyback DC/DC Controller, 6-pin SOT23 (S6-6), -40 to 125 degC, Pb-Free, Mini Tape and Reel; Manufacturer: Linear Technology; PartNumber: LTC3803IS6-3#TRMPBF; Number of Outputs: 1; PackageReference: S6-6; PackageDescription: 6-Pin Plastic TSOT-23, Body 2.9 x 1.63 mm, Pitch 0.95 mm; Supplier 1: Digi-Key; Supplier Part Number 1: LTC3803IS6-3#TRMPBF-ND; RoHS: TRUE; Code_JEDEC: MO-193
footprint LT-S6-6-TSOT-23_N (SOT23, 6-Leads, Body 2.9x1.75mm, Pitch 0.95mm, IPC Medium Density)
footprint LT-S6-6-TSOT-23_L (SOT23, 6-Leads, Body 2.9x1.75mm, Pitch 0.95mm, IPC High Density)
footprint LT-S6-6-TSOT-23_M (SOT23, 6-Leads, Body 2.9x1.75mm, Pitch 0.95mm, IPC Low Density)
pins: 1 ITH/RUN (in), 2 GND (power) "Ground Pin.", 3 VFB (in) "Receives the feedback voltage from an external resistive divider across the output.", 4 SENSE (in) "This pin performs two functions. It monitors switch current by reading the voltage across an external current sense resistor to ground. It also injects a current ramp that develops slope compensation voltage across an (See Datasheet)", 5 VCC (power) "Supply Pin. Must be closely decoupled to GND (Pin 2).", 6 NGATE (out) "Gate Drive for the External N-channel MOSFET. This pin swings from 0V to VCC."

## LTC3803IS6-3#TRPBF
designator U?
Constant Frequency Current Mode Flyback DC/DC Controller, 6-pin SOT23 (S6-6), -40 to 125 degC, Pb-Free, Tape and Reel; Manufacturer: Linear Technology; PartNumber: LTC3803IS6-3#TRPBF; Number of Outputs: 1; PackageReference: S6-6; PackageDescription: 6-Pin Plastic TSOT-23, Body 2.9 x 1.63 mm, Pitch 0.95 mm; Supplier 1: Digi-Key; Supplier Part Number 1: LTC3803IS6-3#TRPBF-ND; RoHS: TRUE; Code_JEDEC: MO-193
footprint LT-S6-6-TSOT-23_N (SOT23, 6-Leads, Body 2.9x1.75mm, Pitch 0.95mm, IPC Medium Density)
footprint LT-S6-6-TSOT-23_L (SOT23, 6-Leads, Body 2.9x1.75mm, Pitch 0.95mm, IPC High Density)
footprint LT-S6-6-TSOT-23_M (SOT23, 6-Leads, Body 2.9x1.75mm, Pitch 0.95mm, IPC Low Density)
pins: 1 ITH/RUN (in), 2 GND (power) "Ground Pin.", 3 VFB (in) "Receives the feedback voltage from an external resistive divider across the output.", 4 SENSE (in) "This pin performs two functions. It monitors switch current by reading the voltage across an external current sense resistor to ground. It also injects a current ramp that develops slope compensation voltage across an (See Datasheet)", 5 VCC (power) "Supply Pin. Must be closely decoupled to GND (Pin 2).", 6 NGATE (out) "Gate Drive for the External N-channel MOSFET. This pin swings from 0V to VCC."

## LTC3803IS6-5#PBF
designator U?
Constant Frequency Current Mode Flyback DC/DC Controller, 6-pin SOT23 (S6-6), -40 to 125 degC, Pb-Free; Manufacturer: Linear Technology; PartNumber: LTC3803IS6-5#PBF; Number of Outputs: 1; PackageReference: S6-6; PackageDescription: 6-Pin Plastic TSOT-23, Body 2.9 x 1.63 mm, Pitch 0.95 mm; Supplier 1: Newark; Supplier Part Number 1: 78T3250; RoHS: TRUE; Code_JEDEC: MO-193
footprint LT-S6-6-TSOT-23_N (SOT23, 6-Leads, Body 2.9x1.75mm, Pitch 0.95mm, IPC Medium Density)
footprint LT-S6-6-TSOT-23_L (SOT23, 6-Leads, Body 2.9x1.75mm, Pitch 0.95mm, IPC High Density)
footprint LT-S6-6-TSOT-23_M (SOT23, 6-Leads, Body 2.9x1.75mm, Pitch 0.95mm, IPC Low Density)
pins: 1 ITH/RUN (in), 2 GND (power) "Ground Pin.", 3 VFB (in) "Receives the feedback voltage from an external resistive divider across the output.", 4 SENSE (in) "This pin performs two functions. It monitors switch current by reading the voltage across an external current sense resistor to ground. It also injects a current ramp that develops slope compensation voltage across an (See Datasheet)", 5 VCC (power) "Supply Pin. Must be closely decoupled to GND (Pin 2).", 6 NGATE (out) "Gate Drive for the External N-channel MOSFET. This pin swings from 0V to VCC."

## LTC3803IS6-5#TRMPBF
designator U?
Constant Frequency Current Mode Flyback DC/DC Controller, 6-pin SOT23 (S6-6), -40 to 125 degC, Pb-Free, Mini Tape and Reel; Manufacturer: Linear Technology; PartNumber: LTC3803IS6-5#TRMPBF; Number of Outputs: 1; PackageReference: S6-6; PackageDescription: 6-Pin Plastic TSOT-23, Body 2.9 x 1.63 mm, Pitch 0.95 mm; Supplier 1: Digi-Key; Supplier Part Number 1: LTC3803IS6-5#TRMPBF-ND; RoHS: TRUE; Code_JEDEC: MO-193
footprint LT-S6-6-TSOT-23_N (SOT23, 6-Leads, Body 2.9x1.75mm, Pitch 0.95mm, IPC Medium Density)
footprint LT-S6-6-TSOT-23_L (SOT23, 6-Leads, Body 2.9x1.75mm, Pitch 0.95mm, IPC High Density)
footprint LT-S6-6-TSOT-23_M (SOT23, 6-Leads, Body 2.9x1.75mm, Pitch 0.95mm, IPC Low Density)
pins: 1 ITH/RUN (in), 2 GND (power) "Ground Pin.", 3 VFB (in) "Receives the feedback voltage from an external resistive divider across the output.", 4 SENSE (in) "This pin performs two functions. It monitors switch current by reading the voltage across an external current sense resistor to ground. It also injects a current ramp that develops slope compensation voltage across an (See Datasheet)", 5 VCC (power) "Supply Pin. Must be closely decoupled to GND (Pin 2).", 6 NGATE (out) "Gate Drive for the External N-channel MOSFET. This pin swings from 0V to VCC."